# EAGLE library part ES_DAISY_PATCH_SM_REV1 (library Electrosmith-Boards)
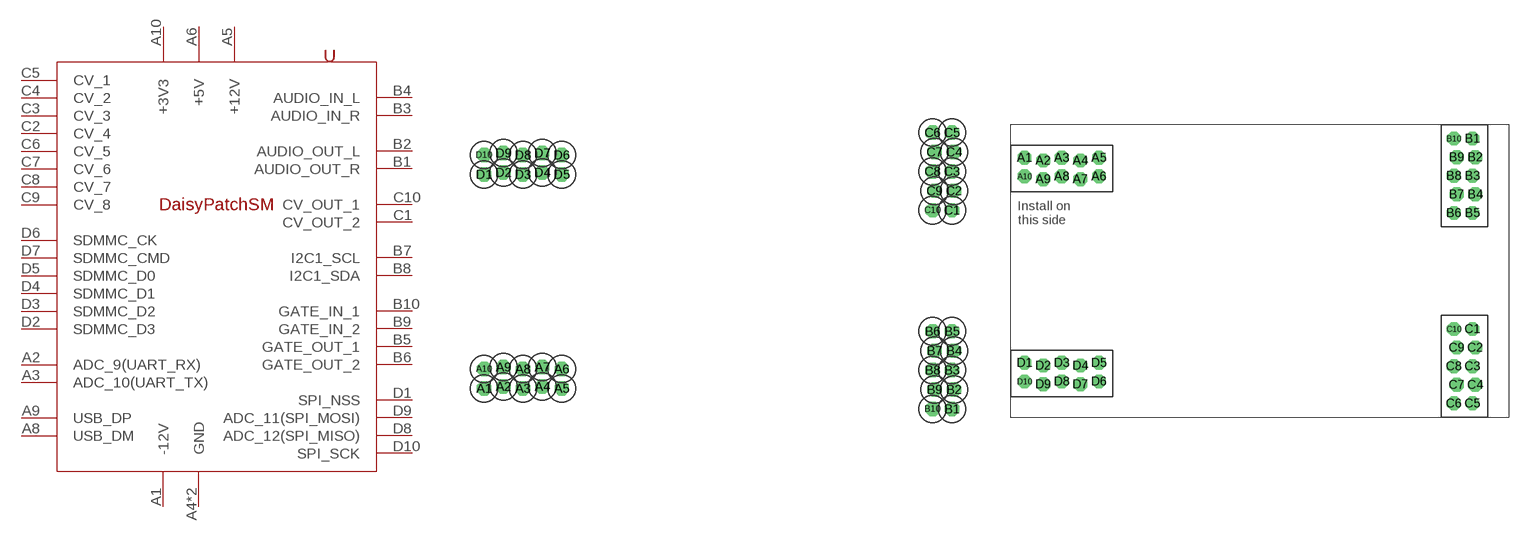
[diagram p22: symbol with the pads of ES_DAISY_PATCH_SM_REV1_FLIP; footprints ES_DAISY_PATCH_SM_REV1_FLIP, ES_DAISY_PATCH_SM_REV1_ULTRA_LOCK]

Designator prefix U

## ES_DAISY_PATCH_SM_REV1_FLIP  [ES_DAISY_PATCH_SM_REV1_FLIP]
A1  -12V
A2  ADC_9(UART_RX)
A3  ADC_10(UART_TX)
A4  GND
A5  +12V
A6  +5V
A7  GND
A8  USB_DM
A9  USB_DP
A10  +3V3
B1  AUDIO_OUT_R
B2  AUDIO_OUT_L
B3  AUDIO_IN_R
B4  AUDIO_IN_L
B5  GATE_OUT_1
B6  GATE_OUT_2
B7  I2C1_SCL
B8  I2C1_SDA
B9  GATE_IN_2
B10  GATE_IN_1
C1  CV_OUT_2
C2  CV_4
C3  CV_3
C4  CV_2
C5  CV_1
C6  CV_5
C7  CV_6
C8  CV_7
C9  CV_8
C10  CV_OUT_1
D1  SPI_NSS
D2  SDMMC_D3
D3  SDMMC_D2
D4  SDMMC_D1
D5  SDMMC_D0
D6  SDMMC_CK
D7  SDMMC_CMD
D8  ADC_12(SPI_MISO)
D9  ADC_11(SPI_MOSI)
D10  SPI_SCK

## ES_DAISY_PATCH_SM_REV1ULTRA_LOCK  [ES_DAISY_PATCH_SM_REV1_ULTRA_LOCK]
Pads as for ES_DAISY_PATCH_SM_REV1_FLIP

## ES_DAISY_PATCH_SM_REV1_SMT  [ES_DAISY_PATCH_SM_REV1_SMT]
Pads as for ES_DAISY_PATCH_SM_REV1_FLIP

## ES_DAISY_PATCH_SM_REV1  [ES_DAISY_PATCH_SM_REV1]
Pads as for ES_DAISY_PATCH_SM_REV1_FLIP

## ES_DAISY_PATCH_SM_REV1_BASIC  [ES_DAISY_PATCH_SM_REV1_BASIC]
Pads as for ES_DAISY_PATCH_SM_REV1_FLIP

## Footprint ES_DAISY_PATCH_SM_REV1_FLIP (pad centres in mm)
drill 1.016 pad 1.88 octagon: A1 -32.08,-15.397; A2 -29.54,-15.143; A3 -27,-15.397; A4 -24.46,-15.143; A5 -21.92,-15.397; A6 -21.92,-12.857; A7 -24.46,-12.603; A8 -27,-12.857; A9 -29.54,-12.603; A10 -32.08,-12.857; B1 29.143,-18.08; B2 29.397,-15.54; B3 29.143,-13; B4 29.397,-10.46; B5 29.143,-7.92; B6 26.603,-7.92; B7 26.857,-10.46; B8 26.603,-13; B9 26.857,-15.54; B10 26.603,-18.08; C1 29.143,7.92; C2 29.397,10.46; C3 29.143,13; C4 29.397,15.54; C5 29.143,18.08; C6 26.603,18.08; C7 26.857,15.54; C8 26.603,13; C9 26.857,10.46; C10 26.603,7.92; D1 -32.08,12.603; D2 -29.54,12.857; D3 -27,12.603; D4 -24.46,12.857; D5 -21.92,12.603; D6 -21.92,15.143; D7 -24.46,15.397; D8 -27,15.143; D9 -29.54,15.397; D10 -32.08,15.143

## Footprint ES_DAISY_PATCH_SM_REV1_ULTRA_LOCK (pad centres in mm)
drill 1.016 pad 1.88 octagon: A1 -32.08,15.46; A2 -29.54,15.08; A3 -27,15.46; A4 -24.46,15.08; A5 -21.92,15.46; A6 -21.92,12.92; A7 -24.46,12.54; A8 -27,12.92; A9 -29.54,12.54; A10 -32.08,12.92; B1 29.08,18.08; B2 29.46,15.54; B3 29.08,13; B4 29.46,10.46; B5 29.08,7.92; B6 26.54,7.92; B7 26.92,10.46; B8 26.54,13; B9 26.92,15.54; B10 26.54,18.08; C1 29.08,-7.92; C2 29.46,-10.46; C3 29.08,-13; C4 29.46,-15.54; C5 29.08,-18.08; C6 26.54,-18.08; C7 26.92,-15.54; C8 26.54,-13; C9 26.92,-10.46; C10 26.54,-7.92; D1 -32.08,-12.54; D2 -29.54,-12.92; D3 -27,-12.54; D4 -24.46,-12.92; D5 -21.92,-12.54; D6 -21.92,-15.08; D7 -24.46,-15.46; D8 -27,-15.08; D9 -29.54,-15.46; D10 -32.08,-15.08

## Footprint ES_DAISY_PATCH_SM_REV1_SMT (pad centres in mm)
smd 1 x 3.642: A1 -32.08,16.54; A2 -29.54,16.54; A3 -27,16.54; A4 -24.46,16.54; A5 -21.92,16.54; A6 -21.92,11.46; A7 -24.46,11.46; A8 -27,11.46; A9 -29.54,11.46; A10 -32.08,11.46; D1 -32.08,-11.46; D2 -29.54,-11.46; D3 -27,-11.46; D4 -24.46,-11.46; D5 -21.92,-11.46; D6 -21.92,-16.54; D7 -24.46,-16.54; D8 -27,-16.54; D9 -29.54,-16.54; D10 -32.08,-16.54
smd 3.642 x 1: B1 30.54,18.08; B2 30.54,15.54; B3 30.54,13; B4 30.54,10.46; B5 30.54,7.92; B6 25.46,7.92; B7 25.46,10.46; B8 25.46,13; B9 25.46,15.54; B10 25.46,18.08; C1 30.54,-7.92; C2 30.54,-10.46; C3 30.54,-13; C4 30.54,-15.54; C5 30.54,-18.08; C6 25.46,-18.08; C7 25.46,-15.54; C8 25.46,-13; C9 25.46,-10.46; C10 25.46,-7.92

## Footprint ES_DAISY_PATCH_SM_REV1 (pad centres in mm)
drill 1.016 pad 1.88 octagon: A1 -32.08,15.397; A2 -29.54,15.143; A3 -27,15.397; A4 -24.46,15.143; A5 -21.92,15.397; A6 -21.92,12.857; A7 -24.46,12.603; A8 -27,12.857; A9 -29.54,12.603; A10 -32.08,12.857; B1 29.143,18.08; B2 29.397,15.54; B3 29.143,13; B4 29.397,10.46; B5 29.143,7.92; B6 26.603,7.92; B7 26.857,10.46; B8 26.603,13; B9 26.857,15.54; B10 26.603,18.08; C1 29.143,-7.92; C2 29.397,-10.46; C3 29.143,-13; C4 29.397,-15.54; C5 29.143,-18.08; C6 26.603,-18.08; C7 26.857,-15.54; C8 26.603,-13; C9 26.857,-10.46; C10 26.603,-7.92; D1 -32.08,-12.603; D2 -29.54,-12.857; D3 -27,-12.603; D4 -24.46,-12.857; D5 -21.92,-12.603; D6 -21.92,-15.143; D7 -24.46,-15.397; D8 -27,-15.143; D9 -29.54,-15.397; D10 -32.08,-15.143

## Footprint ES_DAISY_PATCH_SM_REV1_BASIC (pad centres in mm)
drill 1.016 pad 1.88 octagon: A1 -32.08,15.27; A2 -29.54,15.27; A3 -27,15.27; A4 -24.46,15.27; A5 -21.92,15.27; A6 -21.92,12.73; A7 -24.46,12.73; A8 -27,12.73; A9 -29.54,12.73; A10 -32.08,12.73; B1 29.27,18.08; B2 29.27,15.54; B3 29.27,13; B4 29.27,10.46; B5 29.27,7.92; B6 26.73,7.92; B7 26.73,10.46; B8 26.73,13; B9 26.73,15.54; B10 26.73,18.08; C1 29.27,-7.92; C2 29.27,-10.46; C3 29.27,-13; C4 29.27,-15.54; C5 29.27,-18.08; C6 26.73,-18.08; C7 26.73,-15.54; C8 26.73,-13; C9 26.73,-10.46; C10 26.73,-7.92; D1 -32.08,-12.73; D2 -29.54,-12.73; D3 -27,-12.73; D4 -24.46,-12.73; D5 -21.92,-12.73; D6 -21.92,-15.27; D7 -24.46,-15.27; D8 -27,-15.27; D9 -29.54,-15.27; D10 -32.08,-15.27